# Altium schematic symbol library C0603C222JATACAUTO.SchLib: 1 symbol
Pins are listed as number, name and electrical type; pins without a type are passive.

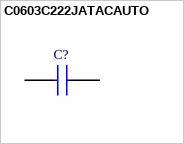
[diagram p0: symbol C0603C222JATACAUTO]

## C0603C222JATACAUTO
designator C?
SMD Auto X8G HT150C, Ceramic, 2200 pF, 5%, 250 VDC, 625 VDC, 150C, -55C, X8G, SMD, MLCC, High Temperature, Ultra-Stable, Automotive Grade, 0.1 % , 100 GOhms, 4.6 mg, 0603, 1.6mm, 0.8mm, 0.85mm, 0.7mm, 0.35mm, 4000, 78  Weeks; Manufacturer_Name: KEMET; Geometry.Height: 0.92mm; Mouser Part Number: 80-C0603C222JATAUTO; Mouser Price/Stock: https://www.mouser.co.uk/ProductDetail/KEMET/C0603C222JATACAUTO?qs=MyNHzdoqoQJw5vgoXcIwjg%3D%3D; Manufacturer_Part_Number: C0603C222JATACAUTO; Datasheet Link: https://content.kemet.com/datasheets/KEM_C1109_X8G_150C_SMD.pdf
footprint CAPC1608X92N
pins: 1, 2